# EAGLE library part OLED-RGB-128X128 (library lio)
Pinouts for OLED/LCD displays with flex ribbons
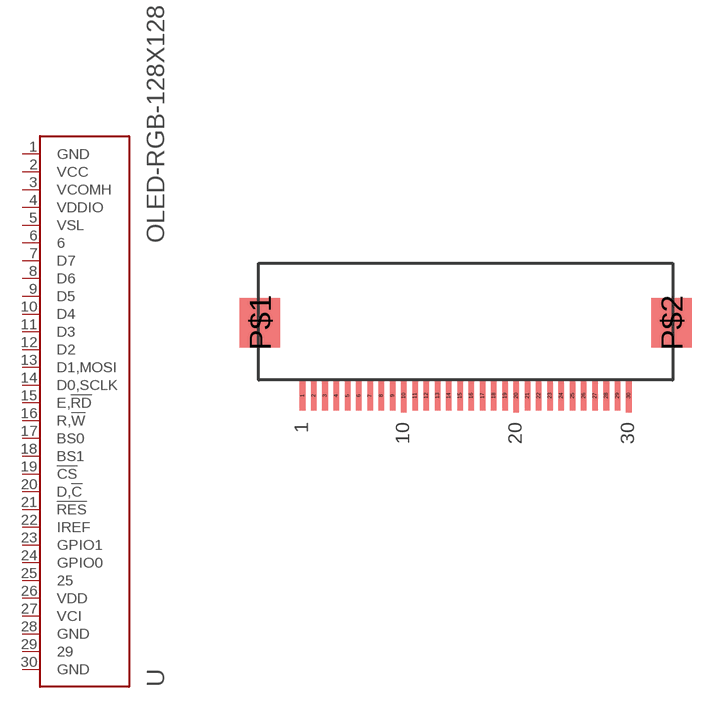
[diagram p10: symbol with the pads of 1X30-0.5MM-TOP; footprint 1X30-0.5MM-TOP]

Designator prefix -

## OLED-RGB-128X128  [1X30-0.5MM-TOP]
1  GND  nc
2  VCC  pwr
3  VCOMH  pwr
4  VDDIO  pwr
5  VSL  pwr
6  6  nc
7  D7
8  D6
9  D5
10  D4
11  D3
12  D2
13  D1,MOSI
14  D0,SCLK
15  E,!RD  in
16  R,!W  in
17  BS0  in
18  BS1  in
19  !CS  in
20  D,!C  in
21  !RES  in
22  IREF  in
23  GPIO1
24  GPIO0
25  25  nc
26  VDD  pwr
27  VCI  pwr
28  GND  pwr
29  29  nc
30  GND  nc

## Footprint 1X30-0.5MM-TOP (pad centres in mm)
smd 0.25 x 1.3: 1 -7.25,0; 2 -6.75,0; 3 -6.25,0; 4 -5.75,0; 5 -5.25,0; 6 -4.75,0; 7 -4.25,0; 8 -3.75,0; 9 -3.25,0; 11 -2.25,0; 12 -1.75,0; 13 -1.25,0; 14 -0.75,0; 15 -0.25,0; 16 0.25,0; 17 0.75,0; 18 1.25,0; 19 1.75,0; 21 2.75,0; 22 3.25,0; 23 3.75,0; 24 4.25,0; 25 4.75,0; 26 5.25,0; 27 5.75,0; 28 6.25,0; 29 6.75,0
smd 0.25 x 1.5: 10 -2.75,0; 20 2.25,0; 30 7.25,0
smd 1.8 x 2.2: P$1 -9.15,3.25; P$2 9.15,3.25